# Altium integrated library AD.IntLib: 4 symbols
Pins are listed as number, name and electrical type; pins without a type are passive.

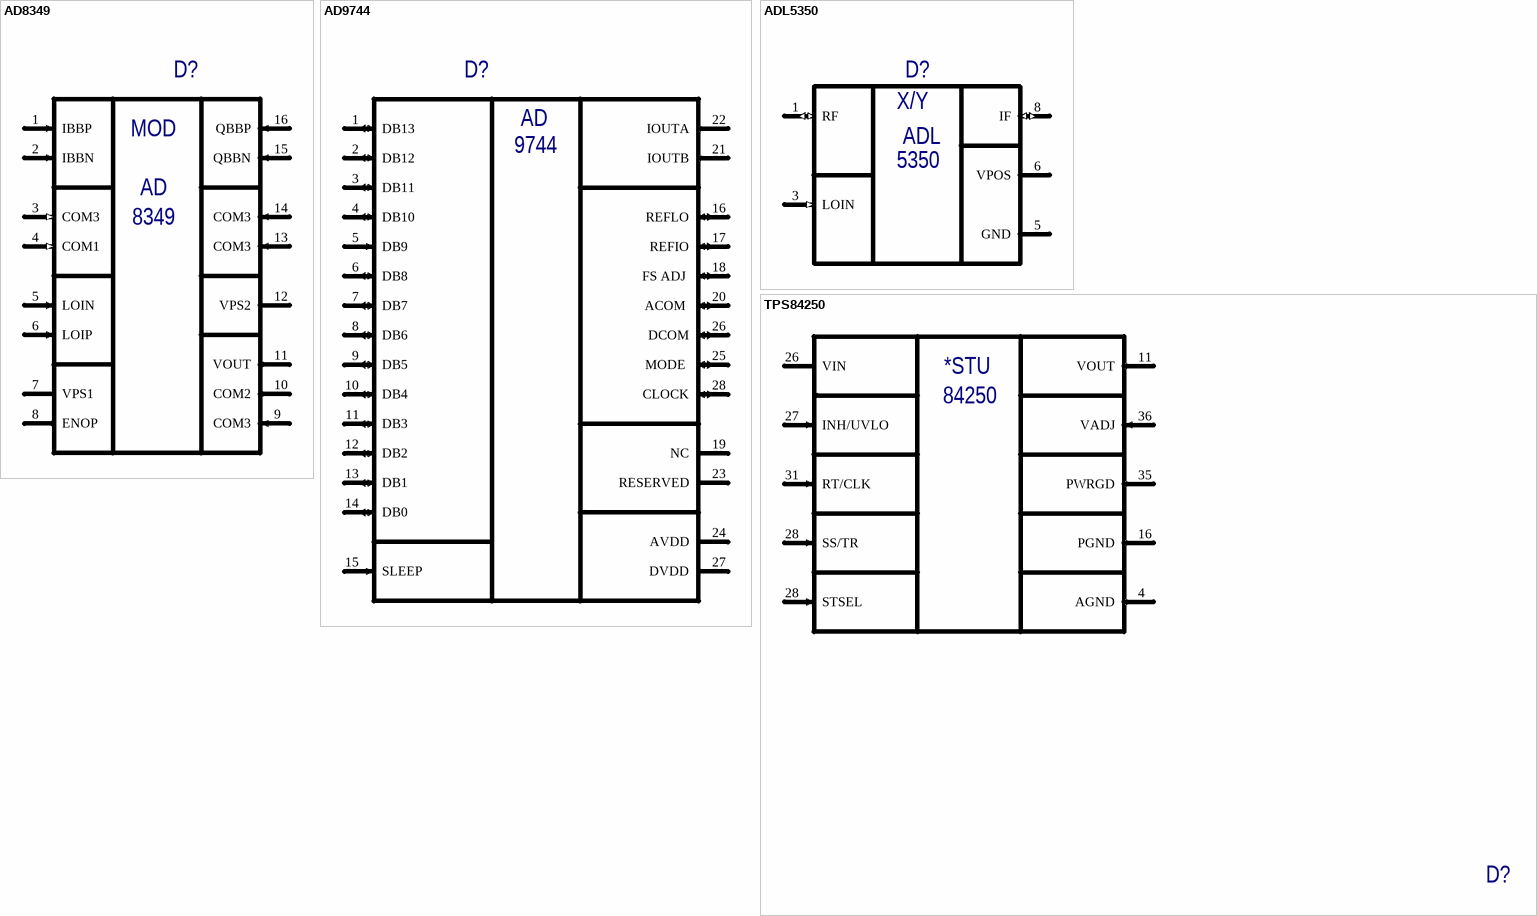
[diagram p0: symbols AD8349 to TPS84250]

## AD8349
designator D?  (value not drawn)
WIDEBAND DIRECT QUADRATURE MODULATOR, 100 - 6000 MHz; Manufacturer: Hittite; Type: Микросхема; SymAuthor: Чернова Ю.Г.; Package: LP4E; ManufacturerPartNumber: AD8349
footprint TSSOP65P490X110-RE-16-2 (TSSOP, 16-Leads, Body 3,0x3,0mm (max), Pitch 0,50mm, IPC Medium Density)
pins: 1 IBBP (in) "Differential In-Phase Channel Baseband Input.", 2 IBBN (in) "Differential In-Phase Channel Baseband Input.", 3 COM3 (in) "Common Pin for Input V-to-I Converters and Mixer Cores.", 4 COM1 (in) "Common Pin for Input V-to-I Converters and Mixer Cores.", 5 LOIN (in) "Differential Local Oscillator Input.", 6 LOIP (in) "Differential Local Oscillator Input.", 7 VPS1 (power) "Positive supply voltage for the Bias Cell and LO Buffers. 4.5 - 5.5 V.", 8 ENOP (out) "Enable", 9 COM3 (in) "Common Pin for Input V-to-I Converters and Mixer Cores", 10 COM2 (out) "Common Pin for the Output Stage of the Output Amplifier.", 11 VOUT (out) "Device Output.", 12 VPS2 (power) "Positive Supply Voltage For The Baseband Input V-To-I Converters And Mixer Cores. 4.5 – 5.5 V", 13 COM3 (in) "Common Pin for Input V-to-I Converters and Mixer Cores.", 14 COM3 (in) "Common Pin for Input V-to-I Converters and Mixer Cores.", 15 QBBN (in) "Q channel differential baseband input", 16 QBBP (in) "Differential Quadrature Channel Baseband Input."
text: MOD; AD; 8349

## AD9744
designator D?  (value not drawn)
Manufacturer: Analog Devices; Type: Микросхема; BCPId: *; Name: *; ManufacturerPartNumber: AD9744; HelpURL: *; Price: *; Rem: *; TU/GOST: *
footprint SOIC_RW_28
pins: 1 DB13 (io) "Most Significant Data Bit", 2 DB12 (io), 3 DB11 (io), 4 DB10 (io), 5 DB9 (in) "Used to Synchronize the Outputs; Active Low Signal", 6 DB8 (io), 7 DB7 (io), 8 DB6 (io), 9 DB5 (io), 10 DB4 (io), 11 DB3 (io), 12 DB2 (io), 13 DB1 (io), 14 DB0 (io), 15 SLEEP (in) "Power-Down Control Input. Active high. Contains active pull-down circuit; it may be left   unterminated if not used.", 16 REFLO (io) "Reference Ground when Internal 1.2 V Reference Used. Connect to ACOM for both internal   and external reference operation modes.", 17 REFIO (io) "Reference Input/Output. Serves as reference input when using external reference. Serves as   1.2 V reference output when using internal reference. Requires 0.1 µF capacitor to ACOM   when using internal reference.", 18 FS ADJ  (io) "Full-Scale Current Output Adjust.", 19 NC "No Internal Connection.", 20 ACOM  (io) "Analog Common.", 21 IOUTB (out) "Complementary DAC Current Output. Full-scale current when all data bits are 0s.", 22 IOUTA (out) "DAC Current Output. Full-scale current when all data bits are 1s.", 23 RESERVED "Reserved. Do not connect to common or supply.", 24 AVDD (power) "Analog Supply Voltage (3.3 V", 25 MODE  (io) "Selects Input Data Format. Connect to DCOM for straight binary, DVDD for twos complement.", 26 DCOM (io) "Digital Common.", 27 DVDD (power) "Digital Supply Voltage (3.3 V).", 28 CLOCK (io) "Clock Input. Data latched on positive edge of clock."
text: AD; 9744

## ADL5350
designator D?  (value not drawn)
Frequency Mixer 1 to 2500 MHz; Manufacturer: Analog Devices; Type: Микросхема; SymAuthor: Чернова Ю.Г.; BCPId: *; Name: *; ManufacturerPartNumber: ADL5350
footprint MW_SYM-25DLHW (Surface mount 9.65x12.7x5.84)
pins: 1 RF (io) "RF and IF Input/Output Ports.", 3 LOIN (in) "LO Input. Needs to be ac-coupled.", 5 GND (power), 6 VPOS (power) "Positive Supply Voltage for the Drain of the LO Buffer.", 8 IF (io) "RF and IF Input/Output Ports."
text: X/Y; ADL; 5350

## TPS84250
designator D?
integrated power  solution that combines a 2.5-A DC/DC converter
footprint S-PB1QFN-N41
pins: 4 AGND (out) "Ground", 11 VOUT (out) "Power output for LDO", 16 PGND (out) "Reference output. Connect to GND through 0.1-µF ceramic capacitor.", 26 VIN (power) "2.5-V or 3.3-V power supply", 27 INH/UVLO (in) "Supply voltage for the LDO", 28 SS/TR (in) "For DDR VTT application, connect EN to SLP_S3", 28 STSEL (in) "Power ground output for the LDO", 31 RT/CLK (in) "Reference input", 35 PWRGD (out) "Indicates regulation", 36 VADJ (in) "Voltage sense output for the LDO"
text: *STU; 84250